# EAGLE library part TAS5142DDV (library Audio-Power-amlifier V.2.0)
STEREO DIGITAL AMPLIFIER POWER STAGE
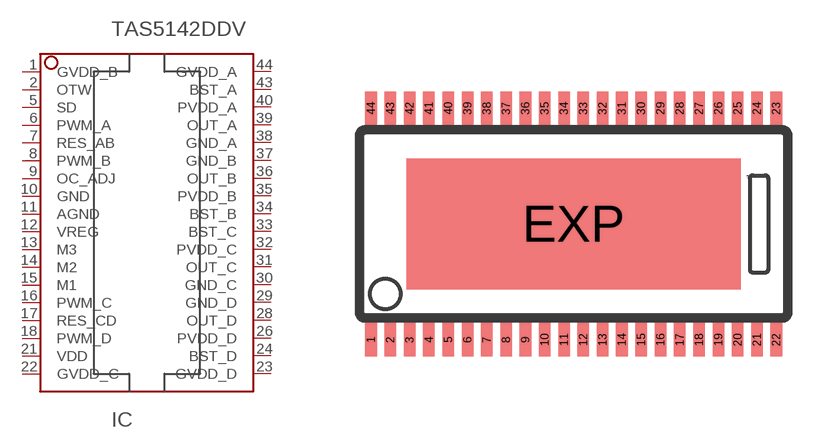
[diagram p124: symbol with the pads of HTSSOP44DDV; footprint HTSSOP44DDV]

Designator prefix IC

## TAS5142DDV  [HTSSOP44DDV]
1  GVDD_B
2  OTW  out
5  SD  out
6  PWM_A  in
7  RES_AB  in
8  PWM_B  in
9  OC_ADJ  out
10  GND  pwr
11  AGND  pwr
12  VREG  pwr
13  M3  in
14  M2  in
15  M1  in
16  PWM_C  in
17  RES_CD  in
18  PWM_D  in
21  VDD  pwr
22  GVDD_C  pwr
23  GVDD_D  pwr
24  BST_D  pwr
26  PVDD_D  pwr
28  OUT_D  out
29  GND_D  pwr
30  GND_C  pwr
31  OUT_C  out
32  PVDD_C  pwr
33  BST_C  pwr
34  BST_B  pwr
35  PVDD_B  pwr
36  OUT_B  out
37  GND_B  pwr
38  GND_A  pwr
39  OUT_A  out
40  PVDD_A  pwr
43  BST_A  pwr
44  GVDD_A  pwr

## Footprint HTSSOP44DDV (pad centres in mm)
PowerPAD(TM) PLASTIC SMALL-OUTLINE PACKAGE DDV (R-PDSO-G**) Source: http://focus.ti.com/lit/ml/mpds041b/mpds041b.pdf / slma002.pdf
smd 0.38 x 1.1: 1 -6.668,-3.81; 2 -6.032,-3.81; 3 -5.397,-3.81; 4 -4.763,-3.81; 5 -4.128,-3.81; 6 -3.493,-3.81; 7 -2.857,-3.81; 8 -2.223,-3.81; 9 -1.587,-3.81; 10 -0.953,-3.81; 11 -0.318,-3.81; 12 0.318,-3.81; 13 0.953,-3.81; 14 1.587,-3.81; 15 2.223,-3.81; 16 2.857,-3.81; 17 3.493,-3.81; 18 4.128,-3.81; 19 4.763,-3.81; 20 5.397,-3.81; 21 6.032,-3.81; 22 6.668,-3.81; 23 6.668,3.81; 24 6.032,3.81; 25 5.397,3.81; 26 4.763,3.81; 27 4.128,3.81; 28 3.493,3.81; 29 2.857,3.81; 30 2.223,3.81; 31 1.587,3.81; 32 0.953,3.81; 33 0.318,3.81; 34 -0.318,3.81; 35 -0.953,3.81; 36 -1.587,3.81; 37 -2.223,3.81; 38 -2.857,3.81; 39 -3.493,3.81; 40 -4.128,3.81; 41 -4.763,3.81; 42 -5.397,3.81; 43 -6.032,3.81; 44 -6.668,3.81
smd 11 x 4.3: EXP 0,0